# Altium schematic symbol library LTC3118.SchLib: 2 symbols
Pins are listed as number, name and electrical type; pins without a type are passive.

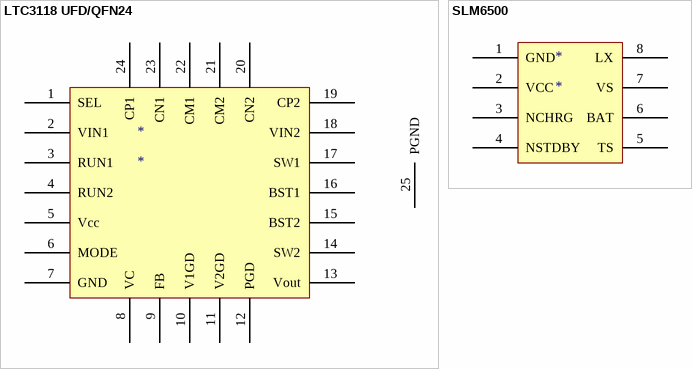
[diagram p0: symbols LTC3118 UFD/QFN24 to SLM6500]

## LTC3118 UFD/QFN24
designator *
pins: 1 SEL, 2 VIN1, 3 RUN1, 4 RUN2, 5 Vcc, 6 MODE, 7 GND, 8 VC, 9 FB, 10 V1GD, 11 V2GD, 12 PGD, 13 Vout, 14 SW2, 15 BST2, 16 BST1, 17 SW1, 18 VIN2, 19 CP2, 20 CN2, 21 CM2, 22 CM1, 23 CN1, 24 CP1, 25 PGND

## SLM6500
designator *
pins: 1 GND, 2 VCC, 3 NCHRG, 4 NSTDBY, 5 TS, 6 BAT, 7 VS, 8 LX